# EAGLE library part MEMORY-SPANSION_S25FL127SABMFI101 (library LinkedLibrary52101)
EEPROM 4 Mbit SPI Serial Flash7
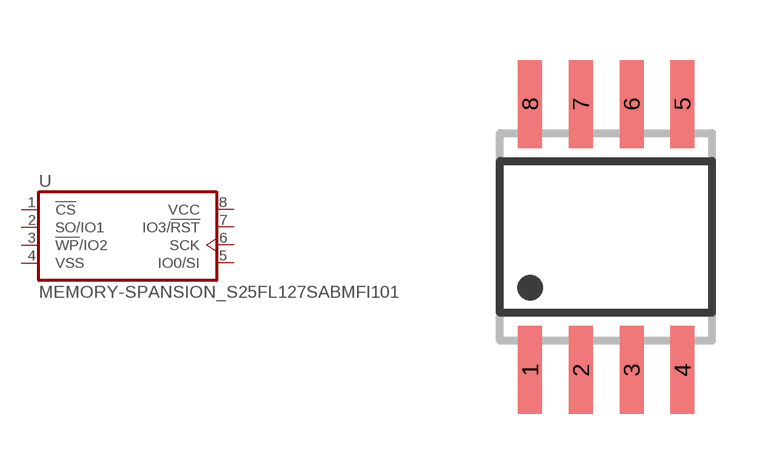
[diagram p1: symbol with the pads of MEMORY-SPANSION_SO08-S2A; footprint MEMORY-SPANSION_SO08-S2A]

Designator prefix U

## MEMORY-SPANSION_S25FL127SABMFI101  [MEMORY-SPANSION_SO08-S2A]
1  !CS!  in
2  SO/IO1
3  !WP!/IO2
4  VSS  pwr
5  IO0/SI
6  SCK  in
7  IO3/!RST!
8  VCC  pwr

## Footprint MEMORY-SPANSION_SO08-S2A (pad centres in mm)
SMALL OUTLINE INTEGRATED CIRCUIT 200 MIL BODY WIDTH (5.2MM X 8MM)
smd 0.6 x 2.2: 1 -1.905,-3.33; 2 -0.635,-3.33; 3 0.635,-3.33; 4 1.905,-3.33; 5 1.905,3.33; 6 0.635,3.33; 7 -0.635,3.33; 8 -1.905,3.33